# Altium schematic symbol library VY1222M47Y5UQ6TV0.SchLib: 1 symbol
Pins are listed as number, name and electrical type; pins without a type are passive.

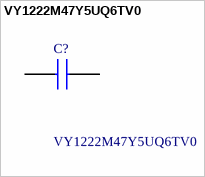
[diagram p0: symbol VY1222M47Y5UQ6TV0]

## VY1222M47Y5UQ6TV0
designator C?
Vishay Single Layer Ceramic Capacitor SLCC 2.2nF 500V ac +/-20% Y5U Dielectric VY1 Series Through Hole; Geometry.Height: 16mm; Mouser Part Number: 72-VY1222M47Y5UQ6TV0; Mouser Price/Stock: https://www.mouser.co.uk/ProductDetail/Vishay-BC-Components/VY1222M47Y5UQ6TV0?qs=YhDfSRCt1jT9mH%2FY2rJQ9g%3D%3D; Manufacturer_Name: Vishay; Manufacturer_Part_Number: VY1222M47Y5UQ6TV0; Datasheet Link: https://componentsearchengine.com/Datasheets/1/VY1222M47Y5UQ6TV0.pdf
footprint VY1222M47Y5UQ6TV0
pins: 1, 2